# Altium footprint library LSM2-T_6-D12-C.PcbLib: 1 footprints
Each footprint in its own frame and in the unit in brackets; x right, y up, seen from the top. Pads: shape width x height; smd on the part's side, far side on the other; paste and mask are expansions set on the pad; w line width, h text height; cw(c..) or ccw(c..) is an arc to the next point about the centre after c.
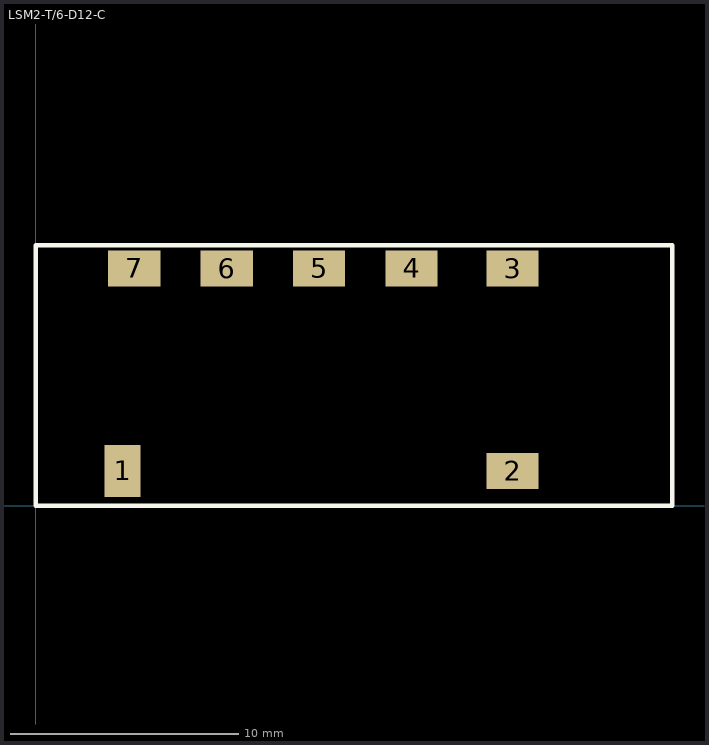
[diagram p0: the footprint, top view; thin cyan lines are the x and y axes]

## LSM2-T/6-D12-C [mm] "MURATA POWER SOLUTIONS - LSM2-T/6-D12-C - CONVERTER, DC/DC, 0.75-5V/6A"
height 8
pads (7):
  rect 1.57x2.29 smd: 1(3.81,1.52)
  rect 2.29x1.57 smd: 2(20.93,1.52) 3(20.93,10.41) 4(16.5,10.41) 5(12.44,10.41) 6(8.38,10.41) 7(4.32,10.41)
Top Overlay:
  lines w0.2: 0,0 27.94,0 27.94,11.43 0,11.43 0,0
3D body: height 7.62, standoff 1, extent 0.1,0 27.9,11.4